# Altium integrated library Altium_WRIS-PSMC_rev19a.IntLib: 4 symbols
Pins are listed as number, name and electrical type; pins without a type are passive.

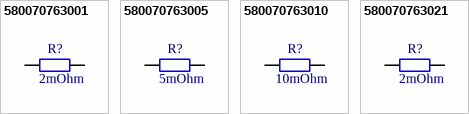
[diagram p0: symbols 580070763001 to 580070763021]

## 580070763001
designator R?, comment 2mOhm
WRIS-PSMC Metal Plate Resistors, size 2512, 2mOhm, +/-1%, 2W; Part Number: 580070763001; Rated Current: 31.62A; Temperature Coefficient of Resistance: +/-100ppm/degC; Technical Reference: MC2512R002F201KAATE0000; ComponentLink1Description: Manufacturer; ComponentLink1URL: http://www.we-online.de; ComponentLink2Description: Datasheet; ComponentLink2URL: https://katalog.we-online.com/pbs/datasheet/580070763001.pdf; Publisher: Wurth Elektronik; Rated Power: 2W; Resistance: 2mOhm; Mounting Technology: SMT; Height: 0.58mm; Packaging: Tape and Reel; Published Date: September 2019; Size: 2512; Length: 6.3mm; Operating Temperature: -55 to +155degC; Resistance Tolerance: +/-1%; Width: 3.1mm
footprint WRIS-PSMC_2512_H=0.58mm
pins: 1, 2

## 580070763005
designator R?, comment 5mOhm
WRIS-PSMC Metal Plate Resistors, size 2512, 5mOhm, +/-1%, 2W; Part Number: 580070763005; Rated Current: 20A; Temperature Coefficient of Resistance: +/-100ppm/degC; Technical Reference: MC2512R005F201KAATE0000; ComponentLink1Description: Manufacturer; ComponentLink1URL: http://www.we-online.de; ComponentLink2Description: Datasheet; ComponentLink2URL: https://katalog.we-online.com/pbs/datasheet/580070763005.pdf; Publisher: Wurth Elektronik; Rated Power: 2W; Resistance: 5mOhm; Mounting Technology: SMT; Height: 0.51mm; Packaging: Tape and Reel; Published Date: September 2019; Size: 2512; Length: 6.3mm; Operating Temperature: -55 to +155degC; Resistance Tolerance: +/-1%; Width: 3.1mm
footprint WRIS-PSMC_2512_H=0.51mm
pins: 1, 2

## 580070763010
designator R?, comment 10mOhm
WRIS-PSMC Metal Plate Resistors, size 2512, 10mOhm, +/-1%, 2W; Part Number: 580070763010; Rated Current: 14.14A; Temperature Coefficient of Resistance: +/-100ppm/degC; Technical Reference: MC2512R010F201KAATE0000; ComponentLink1Description: Manufacturer; ComponentLink1URL: http://www.we-online.de; ComponentLink2Description: Datasheet; ComponentLink2URL: https://katalog.we-online.com/pbs/datasheet/580070763010.pdf; Publisher: Wurth Elektronik; Rated Power: 2W; Resistance: 10mOhm; Mounting Technology: SMT; Height: 0.35mm; Packaging: Tape and Reel; Published Date: September 2019; Size: 2512; Length: 6.3mm; Operating Temperature: -55 to +155degC; Resistance Tolerance: +/-1%; Width: 3.1mm
footprint WRIS-PSMC_2512_H=0.35mm
pins: 1, 2

## 580070763021
designator R?, comment 2mOhm
WRIS-PSMC Metal Plate Resistors, size 2512, 2mOhm, +/-5%, 2W; Part Number: 580070763021; Rated Current: 31.62A; Temperature Coefficient of Resistance: +/-100ppm/degC; Technical Reference: MC2512R002J201KAATE0000; ComponentLink1Description: Manufacturer; ComponentLink1URL: http://www.we-online.de; ComponentLink2Description: Datasheet; ComponentLink2URL: https://katalog.we-online.com/pbs/datasheet/580070763021.pdf; Publisher: Wurth Elektronik; Rated Power: 2W; Resistance: 2mOhm; Mounting Technology: SMT; Height: 0.58mm; Packaging: Tape and Reel; Published Date: September 2019; Size: 2512; Length: 6.3mm; Operating Temperature: -55 to +155degC; Resistance Tolerance: +/-5%; Width: 3.1mm
footprint WRIS-PSMC_2512_H=0.58mm
pins: 1, 2